# Altium schematic symbol library R 0603 1% YAGEO.SchLib: 250 symbols (part 3 of 3)
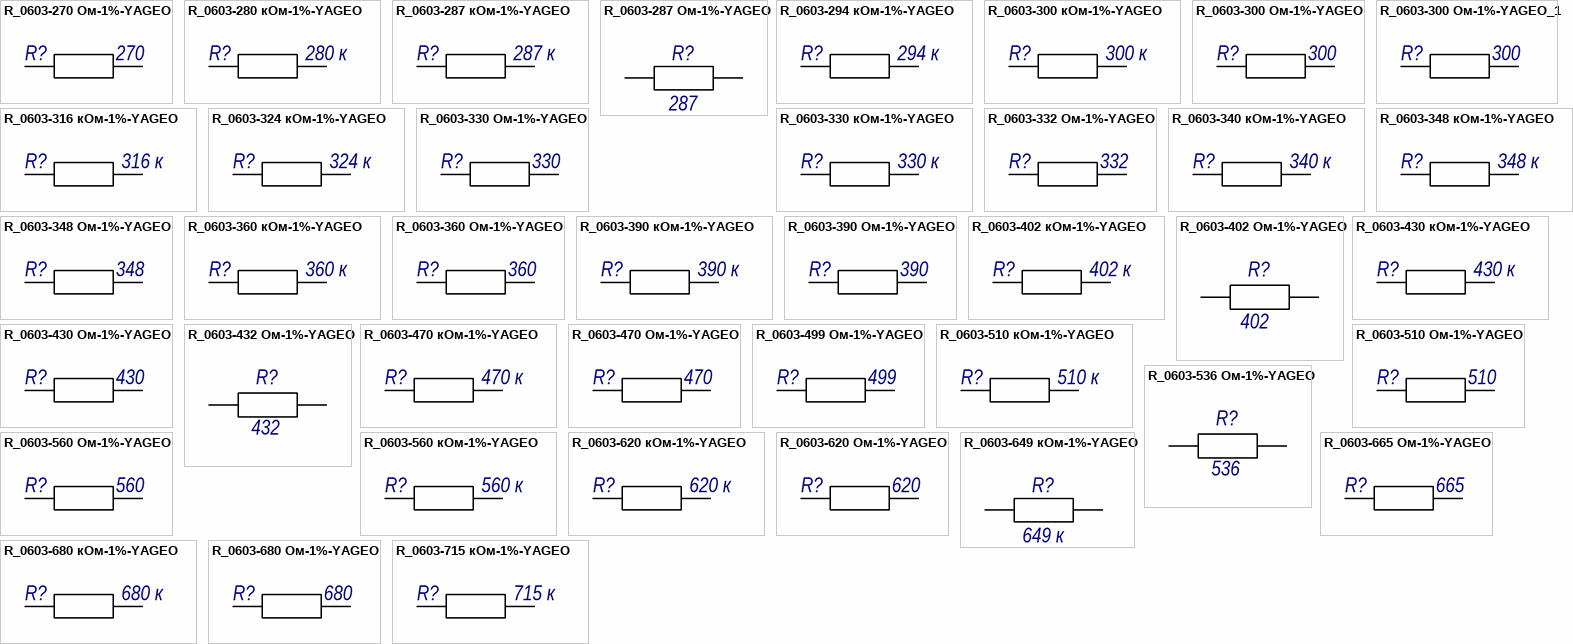
[diagram p8: symbols R_0603-270 Ом-1%-YAGEO to R_0603-715 кОм-1%-YAGEO]

## R_0603-715 кОм-1%-YAGEO
designator R?, comment value 715 к  (hidden comment: Резистор чип 0603-0,1 Вт-715 кОм ±1% фирма "YAGEO")
чип 0603-0,1 Вт-715 кОм ±1% фирма "YAGEO"; Power: 0,1 Вт; Tol: ± 1%; Manufacturer: фирма "YAGEO"; Name: Резистор; TYP: чип 0603; GOST: Резистор чип 0603-0,1 Вт-715 кОм ±1% фирма "YAGEO"
footprint R0603_H05M (Dim 1.6mm*0.8mm H=0.45mm)
pins: 1, 2
1 alternate drawing of the same symbol

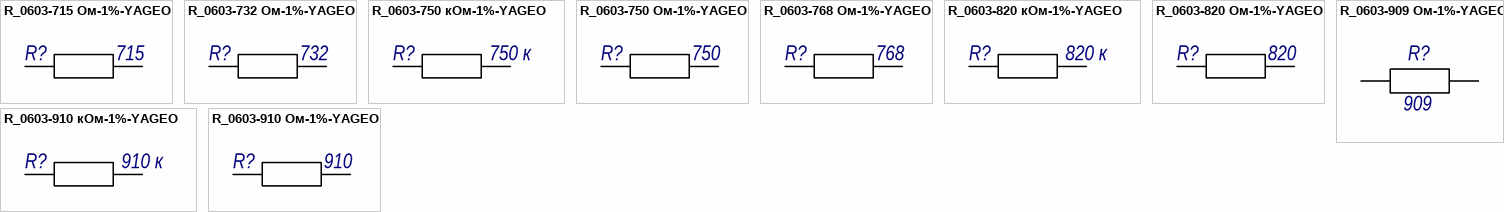
[diagram p6: symbols R_0603-715 Ом-1%-YAGEO to R_0603-910 Ом-1%-YAGEO]

## R_0603-715 Ом-1%-YAGEO
designator R?, comment value 715  (hidden comment: Резистор чип 0603-0,1 Вт-715 Ом ±1% фирма "YAGEO")
чип 0603-0,1 Вт-715 Ом ±1% фирма "YAGEO"; Power: 0,1 Вт; Tol: ± 1%; Manufacturer: фирма "YAGEO"; Name: Резистор; TYP: чип 0603; GOST: Резистор чип 0603-0,1 Вт-715 Ом ±1% фирма "YAGEO"
footprint R0603_H05M (Dim 1.6mm*0.8mm H=0.45mm)
pins: 1, 2
1 alternate drawing of the same symbol

## R_0603-732 Ом-1%-YAGEO
designator R?, comment value 732  (hidden comment: Резистор чип 0603-0,1 Вт-732 Ом ±1% фирма "YAGEO")
чип 0603-0,1 Вт-732 Ом ±1% фирма "YAGEO"; Power: 0,1 Вт; Tol: ± 1%; Manufacturer: фирма "YAGEO"; Name: Резистор; TYP: чип 0603; GOST: Резистор чип 0603-0,1 Вт-732 Ом ±1% фирма "YAGEO"
footprint R0603_H05M (Dim 1.6mm*0.8mm H=0.45mm)
pins: 1, 2
1 alternate drawing of the same symbol

## R_0603-750 кОм-1%-YAGEO
designator R?, comment value 750 к  (hidden comment: Резистор чип 0603-0,1 Вт-750 кОм ±1% фирма "YAGEO")
чип 0603-0,1 Вт-750 кОм ±1% фирма "YAGEO"; Power: 0,1 Вт; Tol: ± 1%; Manufacturer: фирма "YAGEO"; Name: Резистор; TYP: чип 0603; GOST: Резистор чип 0603-0,1 Вт-750 кОм ±1% фирма "YAGEO"
footprint R0603_H05M (Dim 1.6mm*0.8mm H=0.45mm)
pins: 1, 2
1 alternate drawing of the same symbol

## R_0603-750 Ом-1%-YAGEO
designator R?, comment value 750  (hidden comment: Резистор чип 0603-0,1 Вт-750 Ом ±1% фирма "YAGEO")
чип 0603-0,1 Вт-750 Ом ±1% фирма "YAGEO"; Power: 0,1 Вт; Tol: ± 1%; Manufacturer: фирма "YAGEO"; Name: Резистор; TYP: чип 0603; GOST: Резистор чип 0603-0,1 Вт-750 Ом ±1% фирма "YAGEO"
footprint R0603_H05M (Dim 1.6mm*0.8mm H=0.45mm)
pins: 1, 2
1 alternate drawing of the same symbol

## R_0603-768 Ом-1%-YAGEO
designator R?, comment value 768  (hidden comment: Резистор чип 0603-0,1 Вт-768 Ом ±1% фирма "YAGEO")
чип 0603-0,1 Вт-768 Ом ±1% фирма "YAGEO"; Power: 0,1 Вт; Tol: ± 1%; Manufacturer: фирма "YAGEO"; Name: Резистор; TYP: чип 0603; GOST: Резистор чип 0603-0,1 Вт-768 Ом ±1% фирма "YAGEO"
footprint R0603_H05M (Dim 1.6mm*0.8mm H=0.45mm)
pins: 1, 2
1 alternate drawing of the same symbol

## R_0603-820 кОм-1%-YAGEO
designator R?, comment value 820 к  (hidden comment: Резистор чип 0603-0,1 Вт-820 кОм ±1% фирма "YAGEO")
чип 0603-0,1 Вт-820 кОм ±1% фирма "YAGEO"; Power: 0,1 Вт; Tol: ± 1%; Manufacturer: фирма "YAGEO"; Name: Резистор; TYP: чип 0603; GOST: Резистор чип 0603-0,1 Вт-820 кОм ±1% фирма "YAGEO"
footprint R0603_H05M (Dim 1.6mm*0.8mm H=0.45mm)
pins: 1, 2
1 alternate drawing of the same symbol

## R_0603-820 Ом-1%-YAGEO
designator R?, comment value 820  (hidden comment: Резистор чип 0603-0,1 Вт-820 Ом ±1% фирма "YAGEO")
чип 0603-0,1 Вт-820 Ом ±1% фирма "YAGEO"; Power: 0,1 Вт; Tol: ± 1%; Manufacturer: фирма "YAGEO"; Name: Резистор; TYP: чип 0603; GOST: Резистор чип 0603-0,1 Вт-820 Ом ±1% фирма "YAGEO"
footprint R0603_H05M (Dim 1.6mm*0.8mm H=0.45mm)
pins: 1, 2
1 alternate drawing of the same symbol

## R_0603-909 Ом-1%-YAGEO
designator R?, comment value 909  (hidden comment: Резистор чип 0603-0,1 Вт-909 Ом ±1% фирма "YAGEO")
чип 0603-0,1 Вт-909 Ом ±1% фирма "YAGEO"; Power: 0,1 Вт; Tol: ± 1%; Manufacturer: фирма "YAGEO"; Name: Резистор; TYP: чип 0603; GOST: Резистор чип 0603-0,1 Вт-909 Ом ±1% фирма "YAGEO"
footprint R0603_H05M (Dim 1.6mm*0.8mm H=0.45mm)
pins: 1, 2
1 alternate drawing of the same symbol

## R_0603-910 кОм-1%-YAGEO
designator R?, comment value 910 к  (hidden comment: Резистор чип 0603-0,1 Вт-910 кОм ±1% фирма "YAGEO")
чип 0603-0,1 Вт-910 кОм ±1% фирма "YAGEO"; Power: 0,1 Вт; Tol: ± 1%; Manufacturer: фирма "YAGEO"; Name: Резистор; TYP: чип 0603; GOST: Резистор чип 0603-0,1 Вт-910 кОм ±1% фирма "YAGEO"
footprint R0603_H05M (Dim 1.6mm*0.8mm H=0.45mm)
pins: 1, 2
1 alternate drawing of the same symbol

## R_0603-910 Ом-1%-YAGEO
designator R?, comment value 910  (hidden comment: Резистор чип 0603-0,1 Вт-910 Ом ±1% фирма "YAGEO")
чип 0603-0,1 Вт-910 Ом ±1% фирма "YAGEO"; Power: 0,1 Вт; Tol: ± 1%; Manufacturer: фирма "YAGEO"; Name: Резистор; TYP: чип 0603; GOST: Резистор чип 0603-0,1 Вт-910 Ом ±1% фирма "YAGEO"
footprint R0603_H05M (Dim 1.6mm*0.8mm H=0.45mm)
pins: 1, 2
1 alternate drawing of the same symbol